# Altium integrated library NSC Video Switch.IntLib: 1 symbol
Pins are listed as number, name and electrical type; pins without a type are passive.

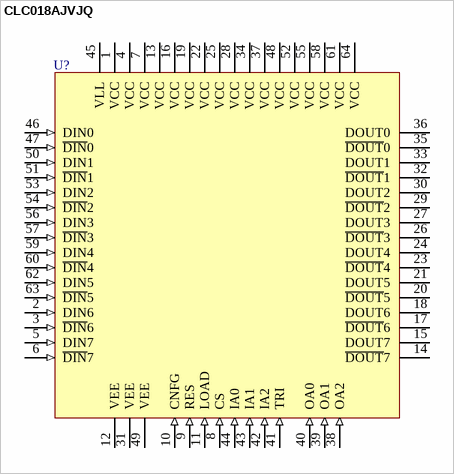
[diagram p0: symbol CLC018AJVJQ]

## CLC018AJVJQ
designator U?
8x8 Digital Crosspoint Switch, 1.4 Gbps; Note: In addition,single +sv or -sv supplies or dual +sv supplies are supported; Published: 15-Apr-2002; LatestRevisionDate: 13-Apr-2006; LatestRevisionNote: IPC-7351 Footprint Added.; DatasheetVersion: Oct-1998; PackageVersion: Oct-1998; PackageReference: VJE64A; Publisher: Altium Limited; PackageDescription: 64-Pin Quad Flat Pack 0.8 mm Pitch; Code_IPC: QFP80P1720X1720-64; ComponentLink1Description: Manufacturer Link; ComponentLink1URL: http://www.national.com/; ComponentLink2Description: Datasheet; ComponentLink2URL: http://www.national.com/ds.cgi/CL/CLC018.pdf; ComponentLink3Description: URL Link1; ComponentLink3URL: http://www.national.com/pf/CL/CLC018.html
footprint VJE64A_N (QFP, 64-Leads, Body 14x14mm, Pitch 0.8mm, IPC Medium Density)
footprint VJE64A_L (QFP, 64-Leads, Body 14x14mm, Pitch 0.8mm, IPC High Density)
footprint VJE64A_M (QFP, 64-Leads, Body 14x14mm, Pitch 0.8mm, IPC Low Density)
3D model CLC018A-VJE64A (64-Pin Quad Flat Pack 0.8 mm Pitch)
pins: 1 VCC (power), 2 DIN6 (in), 3 ~{DIN}6 (in), 4 VCC (power), 5 DIN7 (in), 6 ~{DIN}7 (in), 7 VCC (power), 8 CS (in), 9 RES (in), 10 CNFG (in), 11 LOAD (in), 12 VEE (power), 13 VCC (power), 14 ~{DOUT}7 (hiz), 15 DOUT7 (hiz), 16 VCC (power), 17 ~{DOUT}6 (hiz), 18 DOUT6 (hiz), 19 VCC (power), 20 ~{DOUT}5 (hiz), 21 DOUT5 (hiz), 22 VCC (power), 23 ~{DOUT}4 (hiz), 24 DOUT4 (hiz), 25 VCC (power), 26 ~{DOUT}3 (hiz), 27 DOUT3 (hiz), 28 VCC (power), 29 ~{DOUT}2 (hiz), 30 DOUT2 (hiz), 31 VEE (power), 32 ~{DOUT}1 (hiz), 33 DOUT1 (hiz), 34 VCC (power), 35 ~{DOUT}0 (hiz), 36 DOUT0 (hiz), 37 VCC (power), 38 OA2 (in), 39 OA1 (in), 40 OA0 (in), 41 TRI (in), 42 IA2 (in), 43 IA1 (in), 44 IA0 (in), 45 VLL (power), 46 DIN0 (in), 47 ~{DIN}0 (in), 48 VCC (power), 49 VEE (power), 50 DIN1 (in), 51 ~{DIN}1 (in), 52 VCC (power), 53 DIN2 (in), 54 ~{DIN}2 (in), 55 VCC (power), 56 DIN3 (in), 57 ~{DIN}3 (in), 58 VCC (power), 59 DIN4 (in), 60 ~{DIN}4 (in), 61 VCC (power), 62 DIN5 (in), 63 ~{DIN}5 (in), 64 VCC (power)